# Altium footprint library Z80Lib.PcbLib: 16 footprints
Each footprint in its own frame and in the unit in brackets; x right, y up, seen from the top. Pads: shape width x height; smd on the part's side, far side on the other; paste and mask are expansions set on the pad; w line width, h text height; cw(c..) or ccw(c..) is an arc to the next point about the centre after c.
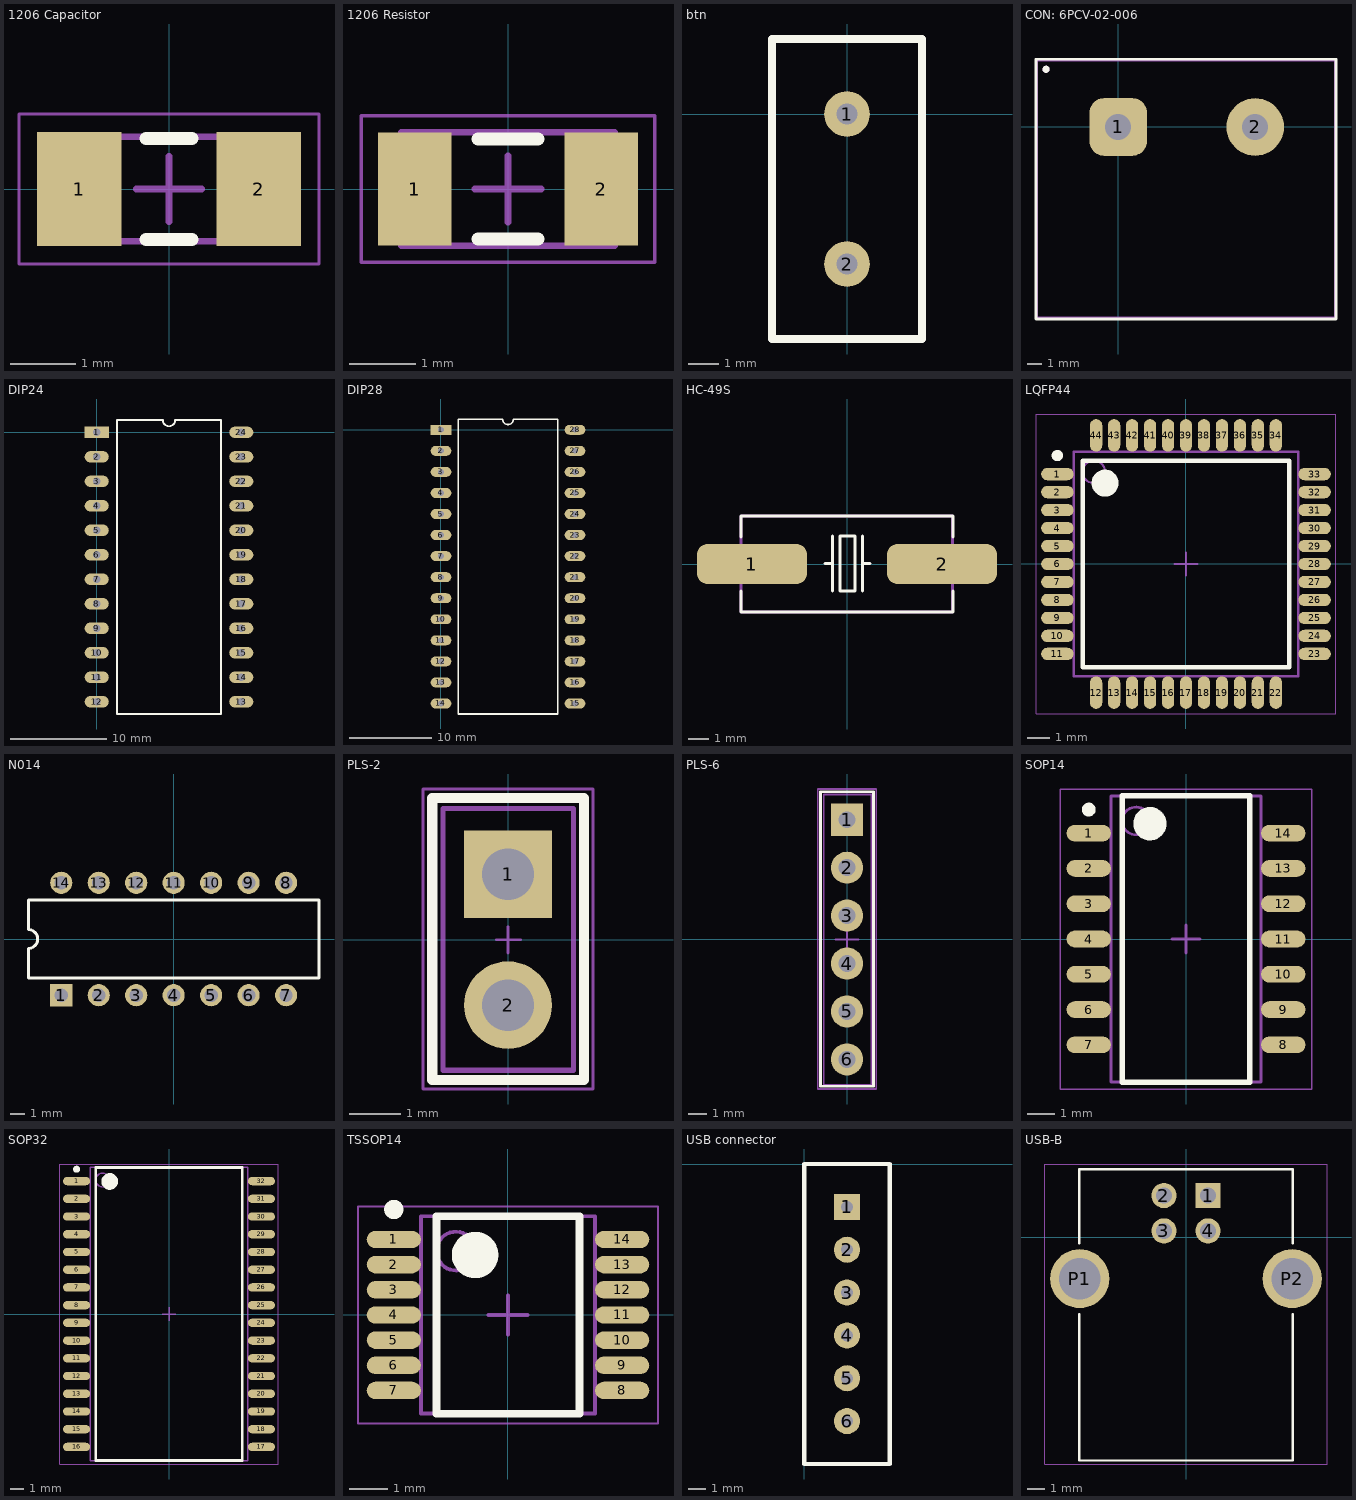
[diagram p0: the footprints below, top view; thin cyan lines are the x and y axes]

## 1206 Capacitor [mm] "Chip Capacitor, 2-Leads, Body 3,20x1,60mm, IPC Medium Density"
height 1.6
pads (2):
  rect 1.3x1.75 smd: 1(-1.375,0) 2(1.375,0)
Top Overlay:
  lines w0.2: -0.35,-0.775 0.35,-0.775 ; -0.35,0.775 0.35,0.775
Mechanical 13:
  lines w0.1: -1.6,-0.8 1.6,-0.8 1.6,0.8 -1.6,0.8 -1.6,-0.8
Mechanical 15:
  lines w0.05: -2.3,-1.15 2.3,-1.15 2.3,1.15 -2.3,1.15 -2.3,-1.15
  lines w0.1: -0.5,0 0.5,0 ; 0,-0.5 0,0.5
3D body: height 1.6, standoff 0, extent 0.8,-0.8 1.6,0.8
3D body: height 1.6, standoff 0, extent -1.6,-0.8 -0.8,0.8
3D body: height 1.6, standoff 0, extent -0.8,-0.8 0.8,0.8

## 1206 Resistor [mm] "Chip Resistor, 2-Leads, Body 3,10x1,60mm, IPC Medium Density"
height 0.65
pads (2):
  rect 1.1x1.7 smd: 1(-1.4,0) 2(1.4,0)
Top Overlay:
  lines w0.2: -0.45,-0.75 0.45,-0.75 ; -0.45,0.75 0.45,0.75
Mechanical 13:
  lines w0.1: -1.6,-0.85 -1.6,0.85 1.6,0.85 1.6,-0.85 -1.6,-0.85
Mechanical 15:
  lines w0.05: -2.2,-1.1 -2.2,1.1 2.2,1.1 2.2,-1.1 -2.2,-1.1
  lines w0.1: -0.5,0 0.5,0 ; 0,-0.5 0,0.5
3D body "1206.step": height 0.65, standoff 0, extent -1.6,-0.85 1.6,0.85

## btn [mil]
pads (2):
  round 60 hole 27.56: 1(0,0) 2(0,-196.85)
Top Overlay:
  lines w10: -98.43,-295.28 98.43,-295.28 98.43,98.43 -98.43,98.43 -98.43,-295.28

## CON: 6PCV-02-006 [mm]
pads (4):
  rrect50% 4x4 hole 1.8: 1(0,0)
  round 4 hole 1.8: 2(9.5,0)
  round 0.5 on Mech1: ""(-5,4)
  round 0.5 on Top Overlay: ""(-5,4)
Top Overlay:
  lines w0.2: -5.7,-13.3 15.1,-13.3 15.1,4.7 -5.7,4.7 -5.7,-13.3
Mechanical 1:
  lines w0.1: -5.6,-13.2 15,-13.2 15,4.58 -5.6,4.58 -5.6,-13.2
  text "1" at -0.2,-3.6 h2
  text "2" at 9.2,-3.6 h2
Mechanical 15:
  lines w0.1: -5.7,-13.3 -5.7,4.7 15.1,4.7 15.1,-13.3 -5.7,-13.3
3D body "02.STEP": height 15.96, standoff -4.99, extent -5.6,-13.2 15,4.58

## DIP24 [mm]
pads (24):
  rect 2.5x1.2 hole 0.8: 1(0,0)
  oval 2.5x1.2 hole 0.8: 2(0,-2.54) 3(0,-5.08) 4(0,-7.62) 5(0,-10.16) 6(0,-12.7) 7(0,-15.24) 8(0,-17.78) 9(0,-20.32) 10(0,-22.86) 11(0,-25.4) 12(0,-27.94) 13(14.99,-27.94) 14(14.99,-25.4) 15(14.99,-22.86) 16(14.99,-20.32) 17(14.99,-17.78) 18(14.99,-15.24) 19(14.99,-12.7) 20(14.99,-10.16) 21(14.99,-7.62) 22(14.99,-5.08) 23(14.99,-2.54) 24(14.99,0)
Top Overlay:
  lines w0.2: 2.085,-29.21 12.905,-29.21 12.905,1.27 8.13,1.27 cw(c7.495,1.27) 6.86,1.27 2.085,1.27 2.085,-29.21
3D body: height 1.55, standoff 0, extent 1,-30 14,2

## DIP28 [mm]
pads (28):
  rect 2.5x1.2 hole 0.7: 1(0,0)
  oval 2.5x1.2 hole 0.7: 2(0,-2.54) 3(0,-5.08) 4(0,-7.62) 5(0,-10.16) 6(0,-12.7) 7(0,-15.24) 8(0,-17.78) 9(0,-20.32) 10(0,-22.86) 11(0,-25.4) 12(0,-27.94) 13(0,-30.48) 14(0,-33.02) 15(16.17,-33.02) 16(16.17,-30.48) 17(16.17,-27.94) 18(16.17,-25.4) 19(16.17,-22.86) 20(16.17,-20.32) 21(16.17,-17.78) 22(16.17,-15.24) 23(16.17,-12.7) 24(16.17,-10.16) 25(16.17,-7.62) 26(16.17,-5.08) 27(16.17,-2.54) 28(16.17,0)
Top Overlay:
  lines w0.2: 2.085,-34.29 14.085,-34.29 14.085,1.27 8.72,1.27 cw(c8.085,1.27) 7.45,1.27 2.085,1.27 2.085,-34.29
3D body: height 5.8, standoff 1, extent 1,-35 15,2

## HC-49S [mm]
pads (2):
  rrect50% 5.5x2 smd: 1(-4.75,0) 2(4.75,0)
Top Overlay:
  lines w0.15: -5.3,-1.35 -5.3,-2.4 5.3,-2.4 5.3,-1.35 ; -5.3,1.35 -5.3,2.4 5.3,2.4 5.3,1.35 ; -1.1,0.025 -0.725,0.025 ; -0.725,-1.35 -0.725,0.025 ; -0.725,1.4 -0.725,0.025 ; 0.775,-1.35 0.775,0.025 ; 0.775,1.4 0.775,0.025 ; 1.15,0.025 0.775,0.025 ; -0.35,-1.35 -0.35,0.025 -0.35,1.4 0.025,1.4 0.4,1.4 0.4,0.025 0.4,-1.35 0.025,-1.35 -0.35,-1.35
Mechanical 29:
  lines w0.15: -5.3,-2.4 5.275,-2.4 5.275,2.4 -5.3,2.4 -5.3,-2.4
  text ".Designator" at -3.4,-0.3 h1
3D body "HC-49S.STEP": height 4.35, standoff 0, extent -6.175,-2.35 6.125,2.35

## LQFP44 [mm] "LQFP, 44-Leads, Body 10,00x10,00mm, Pitch 0,80mm, IPC Medium Densit"
height 1.6
pads (44):
  oval 1.45x0.55 smd: 1(-5.725,4) 2(-5.725,3.2) 3(-5.725,2.4) 4(-5.725,1.6) 5(-5.725,0.8) 6(-5.725,0) 7(-5.725,-0.8) 8(-5.725,-1.6) 9(-5.725,-2.4) 10(-5.725,-3.2) 11(-5.725,-4) 23(5.725,-4) 24(5.725,-3.2) 25(5.725,-2.4) 26(5.725,-1.6) 27(5.725,-0.8) 28(5.725,0) 29(5.725,0.8) 30(5.725,1.6) 31(5.725,2.4) 32(5.725,3.2) 33(5.725,4)
  oval 0.55x1.45 smd: 12(-4,-5.725) 13(-3.2,-5.725) 14(-2.4,-5.725) 15(-1.6,-5.725) 16(-0.8,-5.725) 17(0,-5.725) 18(0.8,-5.725) 19(1.6,-5.725) 20(2.4,-5.725) 21(3.2,-5.725) 22(4,-5.725) 34(4,5.725) 35(3.2,5.725) 36(2.4,5.725) 37(1.6,5.725) 38(0.8,5.725) 39(0,5.725) 40(-0.8,5.725) 41(-1.6,5.725) 42(-2.4,5.725) 43(-3.2,5.725) 44(-4,5.725)
Top Overlay:
  circle w0.25: c-5.725,4.825 r0.125
  circle w0.6: c-3.6,3.6 r0.3
  lines w0.2: -4.6,-4.6 -4.6,4.6 4.6,4.6 4.6,-4.6 -4.6,-4.6
Mechanical 13:
  circle w0.1: c-4.1,4.1 r0.5
  lines w0.1: -5,-5 -5,5 5,5 5,-5 -5,-5
Mechanical 15:
  lines w0.05: -6.675,-6.675 -6.675,6.675 6.675,6.675 6.675,-6.675 -6.675,-6.675
  lines w0.1: -0.5,0 0.5,0 ; 0,-0.5 0,0.5
3D body "LQFP44.step": height 1.6, standoff 0, extent -6,-6 6,6

## N014 [mm] "DIP; 14 Leads; Row Spacing 7.62 mm; Pitch 2.54 mm"
height 5.08
pads (14):
  rect 1.5x1.5 hole 0.9: 1(-7.62,-3.81)
  round 1.5 hole 0.9: 2(-5.08,-3.81) 3(-2.54,-3.81) 4(0,-3.81) 5(2.54,-3.81) 6(5.08,-3.81) 7(7.62,-3.81) 8(7.62,3.81) 9(5.08,3.81) 10(2.54,3.81) 11(0,3.81) 12(-2.54,3.81) 13(-5.08,3.81) 14(-7.62,3.81)
Top Overlay:
  lines w0.2: -9.85,-2.65 9.85,-2.65 9.85,2.65 -9.85,2.65 -9.85,0.635 cw(c-9.85,0) -9.85,-0.635 -9.85,-2.65

## PLS-2 [mm]
height 0.05
pads (2):
  rect 1.7x1.7 hole 1: 1(0,1.27)
  round 1.7 hole 1: 2(0,-1.27)
Top Overlay:
  lines w0.2: -1.471,-2.725 -1.471,2.748 1.475,2.748 1.475,-2.725 -1.471,-2.725
Mechanical 13:
  lines w0.1: -1.265,-2.535 1.275,-2.535 1.275,2.545 -1.265,2.545 -1.265,-2.535
Mechanical 15:
  lines w0.05: -0.225,0 0.25,0 ; 0,-0.259 0,0.253 ; -1.65,-2.9 -1.65,2.925 1.65,2.925 1.65,-2.9 -1.65,-2.9
3D body "User Library-PLS-2.step": height 8.54, standoff -3, extent -1.265,-2.535 1.275,2.545

## PLS-6 [mm]
height 0.05
pads (6):
  rect 1.7x1.7 hole 0.9: 1(0,6.345)
  round 1.7 hole 0.9: 2(0,3.805) 3(0,1.265) 5(0,-3.815) 6(0,-6.355)
  round 1.7 hole 0.9 mask+0.102: 4(0,-1.275)
Top Overlay:
  lines w0.15: -1.4,-7.775 1.4,-7.775 1.4,7.825 -1.4,7.825 -1.4,-7.775
Mechanical 9:
  text ".Designator" at -5.25,8.75 h3.5
Mechanical 10:
  text ".Comment" at -2.75,-9.75 h2
Mechanical 11:
  lines w0.1: -1.23,-7.7 1.3,-7.7 1.3,7.68 -1.23,7.68 -1.23,-7.7
Mechanical 15:
  lines w0.1: -0.625,0 0.625,0 ; 0,-0.6 0,0.6 ; -1.55,-7.925 1.55,-7.925 1.55,7.975 1.525,7.975 -1.55,7.975 -1.55,7.95 -1.55,-7.925
3D body "User Library-PLS-6.step": height 8.54, standoff -3, extent -1.27,-7.585 1.27,7.655

## SOP14 [mm] "SOP, 14-Leads, Body 10,20x5,30mm, Pitch 1,27mm, IPC Medium Density"
height 2.1
pads (14):
  oval 1.6x0.6 smd: 1(-3.5,3.81) 2(-3.5,2.54) 3(-3.5,1.27) 4(-3.5,0) 5(-3.5,-1.27) 6(-3.5,-2.54) 7(-3.5,-3.81) 8(3.5,-3.81) 9(3.5,-2.54) 10(3.5,-1.27) 11(3.5,0) 12(3.5,1.27) 13(3.5,2.54) 14(3.5,3.81)
Top Overlay:
  circle w0.6: c-1.3,4.15 r0.3
  circle w0.25: c-3.5,4.66 r0.125
  lines w0.2: -2.3,-5.15 2.3,-5.15 2.3,5.15 -2.3,5.15 -2.3,-5.15
Mechanical 13:
  circle w0.1: c-1.8,4.25 r0.5
  lines w0.1: -2.7,-5.15 2.7,-5.15 2.7,5.15 -2.7,5.15 -2.7,-5.15
Mechanical 15:
  lines w0.05: -4.525,-5.4 4.525,-5.4 4.525,5.4 -4.525,5.4 -4.525,-5.4
  lines w0.1: -0.5,0 0.5,0 ; 0,-0.5 0,0.5
3D body "SOP14.step": height 2.1, standoff 0, extent -3.85,-5.15 3.85,5.15

## SOP32 [mm] "SOP, 32-Leads, Body 20,70x11,30mm, Pitch 1,27mm, IPC Medium Density"
height 3
pads (32):
  oval 1.95x0.6 smd: 1(-6.625,9.525) 2(-6.625,8.255) 3(-6.625,6.985) 4(-6.625,5.715) 5(-6.625,4.445) 6(-6.625,3.175) 7(-6.625,1.905) 8(-6.625,0.635) 9(-6.625,-0.635) 10(-6.625,-1.905) 11(-6.625,-3.175) 12(-6.625,-4.445) 13(-6.625,-5.715) 14(-6.625,-6.985) 15(-6.625,-8.255) 16(-6.625,-9.525) 17(6.625,-9.525) 18(6.625,-8.255) 19(6.625,-6.985) 20(6.625,-5.715) 21(6.625,-4.445) 22(6.625,-3.175) 23(6.625,-1.905) 24(6.625,-0.635) 25(6.625,0.635) 26(6.625,1.905) 27(6.625,3.175) 28(6.625,4.445) 29(6.625,5.715) 30(6.625,6.985) 31(6.625,8.255) 32(6.625,9.525)
Top Overlay:
  circle w0.25: c-6.625,10.375 r0.125
  circle w0.6: c-4.25,9.5 r0.3
  lines w0.2: -5.25,-10.5 -5.25,10.5 5.25,10.5 5.25,-10.5 -5.25,-10.5
Mechanical 13:
  circle w0.1: c-4.75,9.6 r0.5
  lines w0.1: -5.65,-10.5 -5.65,10.5 5.65,10.5 5.65,-10.5 -5.65,-10.5
Mechanical 15:
  lines w0.05: -7.825,-10.75 -7.825,10.75 7.825,10.75 7.825,-10.75 -7.825,-10.75
  lines w0.1: -0.5,0 0.5,0 ; 0,-0.5 0,0.5
3D body "SOP32.step": height 3, standoff 0, extent -7.07,-10.5 7.07,10.5

## TSSOP14 [mm] "TSSOP, 14-Leads, Body 5,00x4,40mm, Pitch 0,65mm, IPC Medium Density"
height 1.2
pads (14):
  oval 1.4x0.45 smd: 1(-2.95,1.95) 2(-2.95,1.3) 3(-2.95,0.65) 4(-2.95,0) 5(-2.95,-0.65) 6(-2.95,-1.3) 7(-2.95,-1.95) 8(2.95,-1.95) 9(2.95,-1.3) 10(2.95,-0.65) 11(2.95,0) 12(2.95,0.65) 13(2.95,1.3) 14(2.95,1.95)
Top Overlay:
  circle w0.25: c-2.95,2.725 r0.125
  circle w0.6: c-0.85,1.55 r0.3
  lines w0.2: -1.85,-2.55 -1.85,2.55 1.85,2.55 1.85,-2.55 -1.85,-2.55
Mechanical 13:
  circle w0.1: c-1.35,1.65 r0.5
  lines w0.1: -2.25,-2.55 -2.25,2.55 2.25,2.55 2.25,-2.55 -2.25,-2.55
Mechanical 15:
  lines w0.05: -3.875,-2.8 -3.875,2.8 3.875,2.8 3.875,-2.8 -3.875,-2.8
  lines w0.1: -0.5,0 0.5,0 ; 0,-0.5 0,0.5
3D body "TSSOP14.step": height 1.2, standoff 0, extent -3.2,-2.55 3.2,2.55

## USB connector [mm]
pads (6):
  rect 1.524x1.524 hole 0.7: 1(2.5,-2.5)
  round 1.524 hole 0.7: 2(2.5,-5) 3(2.5,-7.5) 4(2.5,-10) 5(2.5,-12.5) 6(2.5,-15)
Top Overlay:
  lines w0.254: 0,-17.5 5,-17.5 5,0 0,0 0,-17.5

## USB-B [mm]
pads (6):
  rect 1.428x1.428 / inner round 1.428 / far side rect 1.428x1.428 hole 0.92: 1(1.25,2.355)
  round 1.428 hole 0.92: 2(-1.25,2.355) 3(-1.25,0.355) 4(1.25,0.355)
  round 3.346 hole 2.33: P1(-6.02,-2.355) P2(6.02,-2.355)
Top Overlay:
  lines w0.127: -6.05,-4.355 -6.05,-12.655 6.05,-12.655 6.05,-4.355 ; -6.05,-0.355 -6.05,3.845 6.05,3.845 6.05,-0.355
Mechanical 15:
  lines w0.05: -8,-12.855 8,-12.855 8,4.145 -8,4.145 -8,-12.855
3D body "step_temp.STEP": height 10.9, standoff -3.6, extent -7.42,-12.65 7.42,3.85